# EAGLE library part TPS61253YFFT (library Custom)
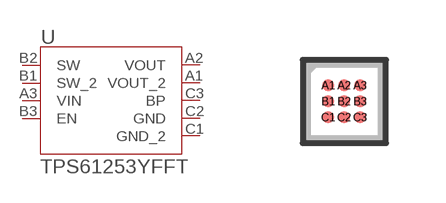
[diagram p0: symbol with the pads of YFF9; footprint YFF9]

Designator prefix -

## TPS61253YFFT (3D_LIBRARY_NAME: TI_AllParts_2012-12-25; COPYRIGHT: Copyright (C) 2015 Accelerated Designs. All rights reserved; MANUFACTURER_PART_NUMBER: TPS61253YFFT; VENDOR: Texas Instruments)  [YFF9]
A1  VOUT_2  out
A2  VOUT  out
A3  VIN  in
B1  SW_2
B2  SW
B3  EN  in
C1  GND_2  pwr
C2  GND  pwr
C3  BP  in

## Footprint YFF9 (pad centres in mm)
smd 0.3 x 0.3: A1 -0.4,0.4; A2 0,0.4; A3 0.4,0.4; B1 -0.4,0; B2 0,0; B3 0.4,0; C1 -0.4,-0.4; C2 0,-0.4; C3 0.4,-0.4